# Altium integrated library Silicon Labs Modems and DAAs.IntLib: 95 symbols (part 2 of 7)
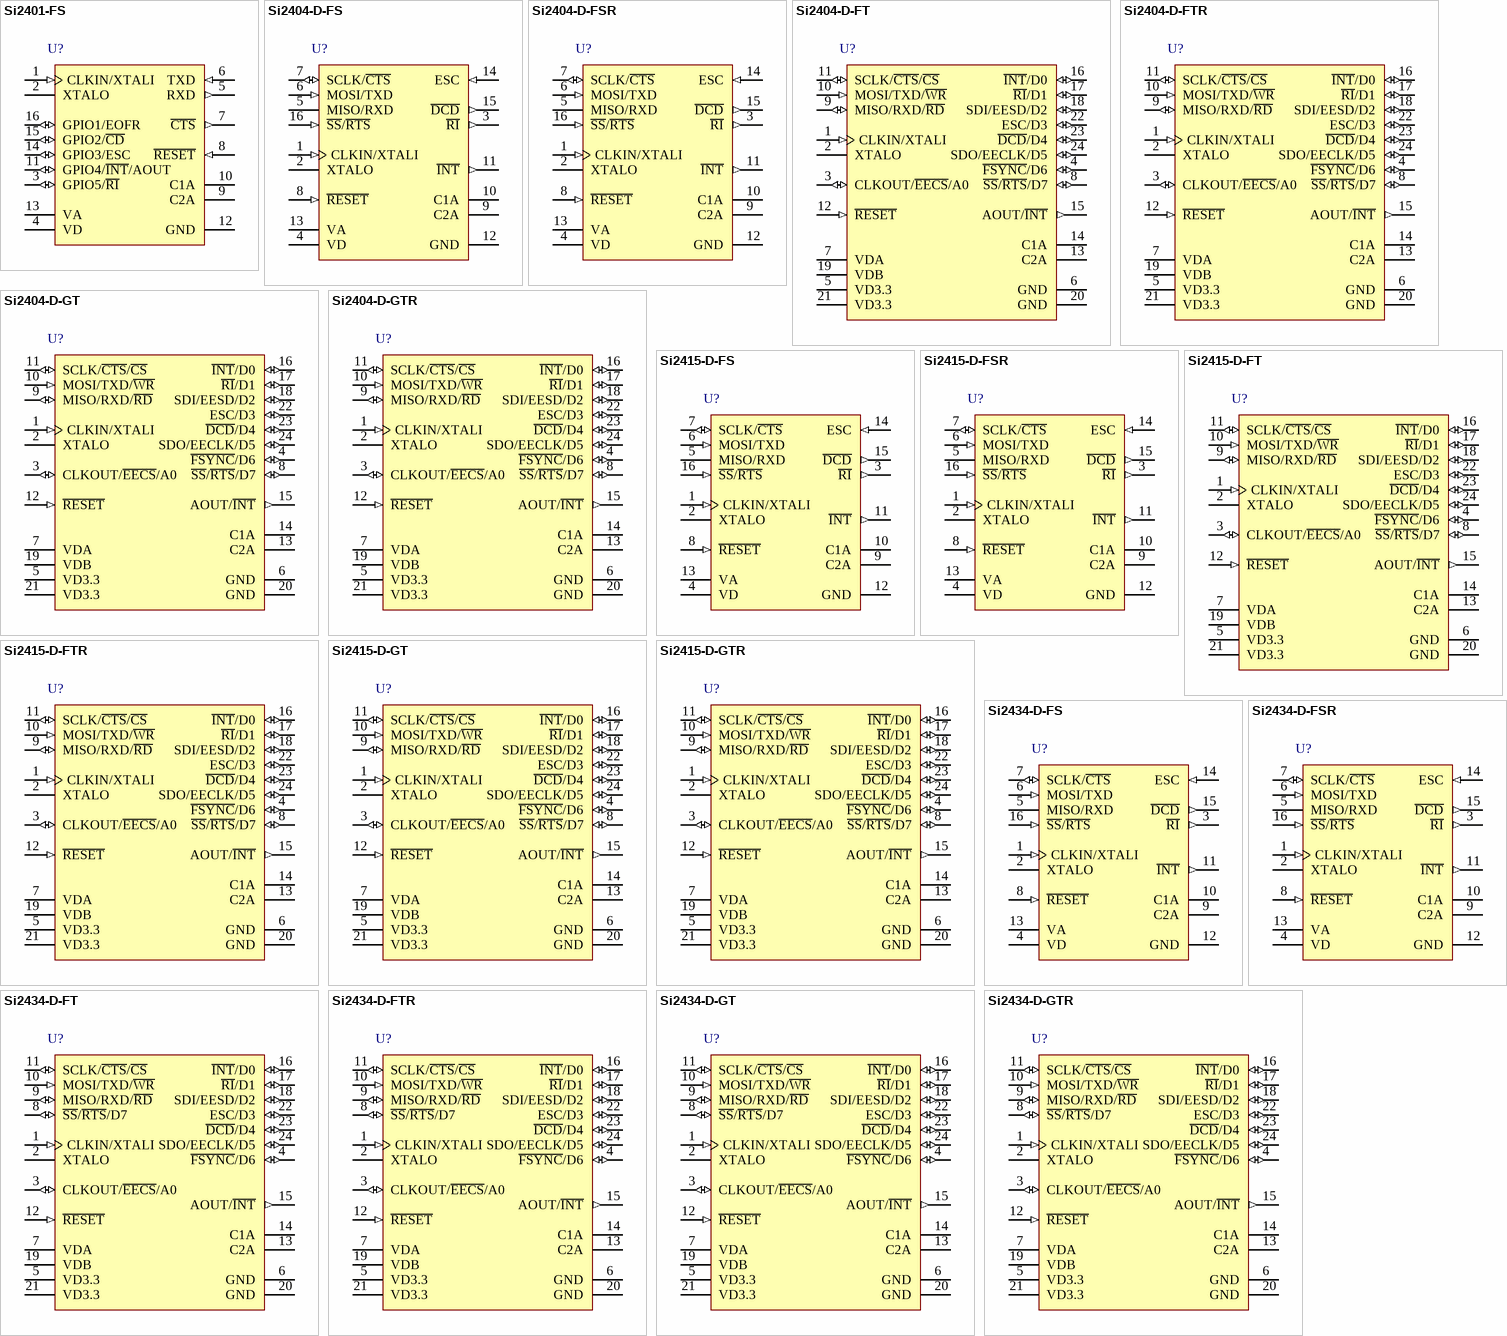
[diagram p5: symbols Si2401-FS to Si2434-D-GTR]

## Si2415-D-GTR
designator U?
ISOModem(R) with Global DAA, 14400 bps, -40 to 85 degC, 24-pin SOP, Tape and Reel; Manufacturer: Silicon Labs; PartNumber: Si2415-D-GTR; Error Correction/Data Compression: TRUE; Handset, TAM and Speakerphone: FALSE; Host Interface: Parallel; SPI; UART; Line Side Device: Si3018; Sub-Family: Embedded Modems; DatasheetVersion: Rev. 1.3; PackageReference: TSSOP-24; PackageDescription: 24-Pin Thin Shrink Small-Outline Package, Body 7.8 x 4.4 mm, Pitch 0.65 mm; Supplier 1: Digi-Key; Supplier Part Number 1: SI2415-D-GTR-ND; Supplier 2: Mouser; Supplier Part Number 2: 634-SI2415-D-GTR; Max Data Rate: 14400 bps; Packing: Tape and Reel; Mounting Technology: Surface Mount; Code_JEDEC: MO-153; Code_IPC: J-STD-020; ComponentLink1Description: Manufacturer URL; ComponentLink1URL: http://www.silabs.com/; ComponentLink2Description: Datasheet; ComponentLink2URL: http://www.silabs.com/Support%20Documents/TechnicalDocs/Si2457-34-15-04D.pdf; ComponentLink3Description: Package Specification; ComponentLink3URL: http://www.silabs.com/Support%20Documents/TechnicalDocs/Si2457-34-15-04D.pdf
footprint SLAB-TSSOP-24_N (SOP, 24-Leads, Body 7.9x4.5mm, Pitch 0.65mm, IPC Medium Density)
footprint SLAB-TSSOP-24_L (SOP, 24-Leads, Body 7.9x4.5mm, Pitch 0.65mm, IPC High Density)
footprint SLAB-TSSOP-24_M (SOP, 24-Leads, Body 7.9x4.5mm, Pitch 0.65mm, IPC Low Density)
pins: 1 CLKIN/XTALI (in) "Clock Input/Crystal Oscillator Pin. Provides support for parallel resonant AT cut crystals. A 4.9152 MHz or 32.768 kHz crystal or a 32.768 kHz or 4.9152 or 27 MHz clock on XTALI is required.", 2 XTALO "Crystal Oscillator Pin. Serves as the output of the crystal amplifier.", 3 CLKOUT/~{EECS}/A0 (io) "Clock Output/EEPROM Chip Select/Address Bit 0. Clock output in serial mode. Active low read/write enable for SPI EEPROM in serial mode when pin 4 is pulled low during powerup. Address Enable in parallel mode.", 4 ~{FSYNC}/D6 (io) "Frame Sync/Data Bit. Frame Sync output to codec in serial mode. Bidirectional parallel bus data bit 6 in parallel mode.", 5 VD3.3 (power) "Digital Supply Voltage. Provides the 3.3 V supply voltage to the Si2415.", 6 GND (power) "Ground. Connects to the system digital ground.", 7 VDA (power) "Regulator Voltage Reference. Connects to an external capacitor and serves as the reference for the internal voltage regulator.", 8 ~{SS}/~{RTS}/D7 (io) "SPI Slave Select/Request to Send/Data Bit. Active low slave select in SPI mode. Active low request to send input used for flow control in UART mode. Bidirectional parallel bus data bit 7 in parallel mode.", 9 MISO/RXD/~{RD} (io) "Master In Slave Out/Receive Data/Read Enable. Serial data output from modem in SPI mode. Data output to DTE RXD pin in UART mode. Active low read enable pin in parallel mode.", 10 MOSI/TXD/~{WR} (in) "Master Out Slave In/Transmit Data/Write Enable. Serial data input to modem in SPI mode. Data input from DTE TXD pin in serial mode. Active low write enable pin in parallel mode.", 11 SCLK/~{CTS}/~{CS} (io) "Serial Data Clock/Clear to Send/Chip Select. Serial data clock input in SPI mode. Signals that the Si2415 is ready to receive more digital data on the TXD pin in data mode. Active low chip select in parallel mode.", 12 ~{RESET} (in) "Reset Input. An active low input that is used to reset all control registers to a defined initialized state.", 13 C2A "Isolation Capacitor 2A. Connects to one side of the isolation capacitor, C2.", 14 C1A "Isolation Capacitor 1A. Connects to one side of the isolation capacitor, C1.", 15 AOUT/~{INT} (out) "Analog Output/Interrupt Output. Analog output in serial mode. Active low interrupt output in parallel mode.", 16 ~{INT}/D0 (io) "Interrupt Output/Data Bit. Active low interrupt output in serial mode. Bidirectional parallel bus data bit 0 in parallel mode.", 17 ~{RI}/D1 (io) "Ring Indicator/Data Bit. The RI on (active low) indicates the presence of an ON segment of a ring signal on the telephone line. Bidirectional parallel bus data bit 1 in parallel mode.", 18 SDI/EESD/D2 (io) "Serial Data In/EEPROM Serial Data Input/Output/Data Bit. Serial Data In (to codec) output in serial mode. Bidirectional Input/Output to SPI EEPROM in serial mode when pin 4 is pulled low during power up. Bidirectional (See Datasheet)", 19 VDB (power) "Regulator Voltage Reference. Connects to an external capacitor and serves as the reference for the internal voltage regulator.", 20 GND (power) "Ground. Connects to the system digital ground.", 21 VD3.3 (power) "Digital Supply Voltage. Provides the 3.3 V supply voltage to the Si2415.", 22 ESC/D3 (io) "Escape/Data Bit. Hardware escape in serial mode. Bidirectional parallel bus data bit 3 in parallel mode.", 23 ~{DCD}/D4 (io) "Carrier Detect/Data Bit. Active low carrier detect in serial mode. Bidirectional parallel bus data bit 4 in parallel mode.", 24 SDO/EECLK/D5 (io) "Serial Data Out/EEPROM Clock/Data Bit 5. Serial Data Out (from codec) input in serial mode. Clock output for SPI EEPROM in serial mode when pin 4 is pulled low during power up. Bidirectional parallel bus data bit 5 in (See Datasheet)"

## Si2434-D-FS
designator U?
ISOModem(R) with Global DAA, 33600 bps, 0 to 70 degC, 16-pin SOIC; Manufacturer: Silicon Labs; PartNumber: Si2434-D-FS; Error Correction/Data Compression: TRUE; Handset, TAM and Speakerphone: FALSE; Host Interface: Parallel; SPI; UART; Line Side Device: Si3018; Sub-Family: Embedded Modems; DatasheetVersion: Rev. 1.3; PackageReference: SOIC-16-NB; PackageDescription: 16-Pin Small-Outline Integrated Circuit, Body 9.9 x 3.9 mm, Pitch 1.27 mm; Supplier 1: Digi-Key; Supplier Part Number 1: SI2434-D-FS-ND; Supplier 2: Mouser; Supplier Part Number 2: 634-SI2434-D-FS; Max Data Rate: 33600 bps; Mounting Technology: Surface Mount; Code_JEDEC: MS-012; Code_IPC: J-STD-020; ComponentLink1Description: Manufacturer URL; ComponentLink1URL: http://www.silabs.com/; ComponentLink2Description: Datasheet; ComponentLink2URL: http://www.silabs.com/Support%20Documents/TechnicalDocs/Si2457-34-15-04D.pdf; ComponentLink3Description: Package Specification; ComponentLink3URL: http://www.silabs.com/Support%20Documents/TechnicalDocs/si2401.pdf
footprint SLAB-SOIC-16-NB_N (SOIC, 16-Leads, Body 9.9x3.9mm, Pitch 1.27mm, IPC Medium Density)
footprint SLAB-SOIC-16-NB_L (SOIC, 16-Leads, Body 9.9x3.9mm, Pitch 1.27mm, IPC High Density)
footprint SLAB-SOIC-16-NB_M (SOIC, 16-Leads, Body 9.9x3.9mm, Pitch 1.27mm, IPC Low Density)
pins: 1 CLKIN/XTALI (in) "XTALI-Crystal Oscillator Pin.", 2 XTALO "XTALO-Crystal Oscillator Pin.", 3 ~{RI} (out) "Ring Indicator.", 4 VD (power) "Supply Voltage.", 5 MISO/RXD (hiz) "Master In Slave Out/Receive Data.", 6 MOSI/TXD (in) "Master Out Slave In/Transmit Data.", 7 SCLK/~{CTS} (io) "Serial Data Clock/Clear to Send.", 8 ~{RESET} (in) "Reset Input.", 9 C2A "Isolation Capacitor 2A.", 10 C1A "Isolation Capacitor 1A.", 11 ~{INT} (out) "Interrupt Output.", 12 GND (power) "Ground.", 13 VA (power) "Regulator Voltage Reference.", 14 ESC (in) "Escape.", 15 ~{DCD} (out) "Carrier Detect", 16 ~{SS}/~{RTS} (in) "SPI Slave Select/Request to Send."

## Si2434-D-FSR
designator U?
ISOModem(R) with Global DAA, 33600 bps, 0 to 70 degC, 16-pin SOIC, Tape and Reel; Manufacturer: Silicon Labs; PartNumber: Si2434-D-FSR; Error Correction/Data Compression: TRUE; Handset, TAM and Speakerphone: FALSE; Host Interface: Parallel; SPI; UART; Line Side Device: Si3018; Sub-Family: Embedded Modems; DatasheetVersion: Rev. 1.3; PackageReference: SOIC-16-NB; PackageDescription: 16-Pin Small-Outline Integrated Circuit, Body 9.9 x 3.9 mm, Pitch 1.27 mm; Supplier 1: Digi-Key; Supplier Part Number 1: SI2434-D-FSR-ND; Supplier 2: Mouser; Supplier Part Number 2: 634-SI2434-D-FSR; Max Data Rate: 33600 bps; Packing: Tape and Reel; Mounting Technology: Surface Mount; Code_JEDEC: MS-012; Code_IPC: J-STD-020; ComponentLink1Description: Manufacturer URL; ComponentLink1URL: http://www.silabs.com/; ComponentLink2Description: Datasheet; ComponentLink2URL: http://www.silabs.com/Support%20Documents/TechnicalDocs/Si2457-34-15-04D.pdf; ComponentLink3Description: Package Specification; ComponentLink3URL: http://www.silabs.com/Support%20Documents/TechnicalDocs/si2401.pdf
footprint SLAB-SOIC-16-NB_N (SOIC, 16-Leads, Body 9.9x3.9mm, Pitch 1.27mm, IPC Medium Density)
footprint SLAB-SOIC-16-NB_L (SOIC, 16-Leads, Body 9.9x3.9mm, Pitch 1.27mm, IPC High Density)
footprint SLAB-SOIC-16-NB_M (SOIC, 16-Leads, Body 9.9x3.9mm, Pitch 1.27mm, IPC Low Density)
pins: 1 CLKIN/XTALI (in) "XTALI-Crystal Oscillator Pin.", 2 XTALO "XTALO-Crystal Oscillator Pin.", 3 ~{RI} (out) "Ring Indicator.", 4 VD (power) "Supply Voltage.", 5 MISO/RXD (hiz) "Master In Slave Out/Receive Data.", 6 MOSI/TXD (in) "Master Out Slave In/Transmit Data.", 7 SCLK/~{CTS} (io) "Serial Data Clock/Clear to Send.", 8 ~{RESET} (in) "Reset Input.", 9 C2A "Isolation Capacitor 2A.", 10 C1A "Isolation Capacitor 1A.", 11 ~{INT} (out) "Interrupt Output.", 12 GND (power) "Ground.", 13 VA (power) "Regulator Voltage Reference.", 14 ESC (in) "Escape.", 15 ~{DCD} (out) "Carrier Detect", 16 ~{SS}/~{RTS} (in) "SPI Slave Select/Request to Send."

## Si2434-D-FT
designator U?
ISOModem(R) with Global DAA, 33600 bps, 0 to 70 degC, 24-pin SOP; Manufacturer: Silicon Labs; PartNumber: Si2434-D-FT; Error Correction/Data Compression: TRUE; Handset, TAM and Speakerphone: FALSE; Host Interface: Parallel; SPI; UART; Line Side Device: Si3018; Sub-Family: Embedded Modems; DatasheetVersion: Rev. 1.3; PackageReference: TSSOP-24; PackageDescription: 24-Pin Thin Shrink Small-Outline Package, Body 7.8 x 4.4 mm, Pitch 0.65 mm; Supplier 1: Digi-Key; Supplier Part Number 1: SI2434-D-FT-ND; Supplier 2: Mouser; Supplier Part Number 2: 634-SI2434-D-FT; Max Data Rate: 33600 bps; Mounting Technology: Surface Mount; Code_JEDEC: MO-153; Code_IPC: J-STD-020; ComponentLink1Description: Manufacturer URL; ComponentLink1URL: http://www.silabs.com/; ComponentLink2Description: Datasheet; ComponentLink2URL: http://www.silabs.com/Support Documents/TechnicalDocs/Si2457-34-15-04D.pdf; ComponentLink3Description: Package Specification; ComponentLink3URL: http://www.silabs.com/Support%20Documents/TechnicalDocs/Si2457-34-15-04D.pdf
footprint SLAB-TSSOP-24_N (SOP, 24-Leads, Body 7.9x4.5mm, Pitch 0.65mm, IPC Medium Density)
footprint SLAB-TSSOP-24_L (SOP, 24-Leads, Body 7.9x4.5mm, Pitch 0.65mm, IPC High Density)
footprint SLAB-TSSOP-24_M (SOP, 24-Leads, Body 7.9x4.5mm, Pitch 0.65mm, IPC Low Density)
pins: 1 CLKIN/XTALI (in) "Clock Input/Crystal Oscillator Pin. Provides support for parallel resonant AT cut crystals. A 4.9152 MHz or 32.768 kHz crystal or a 32.768 kHz or 4.9152 or 27 MHz clock on XTALI is required.", 2 XTALO "Crystal Oscillator Pin. Serves as the output of the crystal amplifier.", 3 CLKOUT/~{EECS}/A0 (io) "Clock Output/EEPROM Chip Select/Address Bit 0. Clock output in serial mode. Active low read/write enable for SPI EEPROM in serial mode when pin 4 is pulled low during powerup. Address Enable in parallel mode.", 4 ~{FSYNC}/D6 (io) "Frame Sync/Data Bit. Frame Sync output to codec in serial mode. Bidirectional parallel bus data bit 6 in parallel mode.", 5 VD3.3 (power) "Digital Supply Voltage. Provides the 3.3 V supply voltage to the Si2434.", 6 GND (power) "Ground. Connects to the system digital ground.", 7 VDA (power) "Regulator Voltage Reference. Connects to an external capacitor and serves as the reference for the internal voltage regulator.", 8 ~{SS}/~{RTS}/D7 (io) "SPI Slave Select/Request to Send/Data Bit. Active low slave select in SPI mode. Active low request to send input used for flow control in UART mode. Bidirectional parallel bus data bit 7 in parallel mode.", 9 MISO/RXD/~{RD} (io) "Master In Slave Out/Receive Data/Read Enable. Serial data output from modem in SPI mode. Data output to DTE RXD pin in UART mode. Active low read enable pin in parallel mode.", 10 MOSI/TXD/~{WR} (in) "Master Out Slave In/Transmit Data/Write Enable. Serial data input to modem in SPI mode. Data input from DTE TXD pin in serial mode. Active low write enable pin in parallel mode.", 11 SCLK/~{CTS}/~{CS} (io) "Serial Data Clock/Clear to Send/Chip Select. Serial data clock input in SPI mode. Signals that the Si2434 is ready to receive more digital data on the TXD pin in data mode. Active low chip select in parallel mode.", 12 ~{RESET} (in) "Reset Input. An active low input that is used to reset all control registers to a defined initialized state.", 13 C2A "Isolation Capacitor 2A. Connects to one side of the isolation capacitor, C2.", 14 C1A "Isolation Capacitor 1A. Connects to one side of the isolation capacitor, C1.", 15 AOUT/~{INT} (out) "Analog Output/Interrupt Output. Analog output in serial mode. Active low interrupt output in parallel mode.", 16 ~{INT}/D0 (io) "Interrupt Output/Data Bit. Active low interrupt output in serial mode. Bidirectional parallel bus data bit 0 in parallel mode.", 17 ~{RI}/D1 (io) "Ring Indicator/Data Bit. The RI on (active low) indicates the presence of an ON segment of a ring signal on the telephone line. Bidirectional parallel bus data bit 1 in parallel mode.", 18 SDI/EESD/D2 (io) "Serial Data In/EEPROM Serial Data Input/Output/Data Bit. Serial Data In (to codec) output in serial mode. Bidirectional Input/Output to SPI EEPROM in serial mode when pin 4 is pulled low during power up. Bidirectional (See Datasheet)", 19 VDB (power) "Regulator Voltage Reference. Connects to an external capacitor and serves as the reference for the internal voltage regulator.", 20 GND (power) "Ground. Connects to the system digital ground.", 21 VD3.3 (power) "Digital Supply Voltage. Provides the 3.3 V supply voltage to the Si2434.", 22 ESC/D3 (io) "Escape/Data Bit. Hardware escape in serial mode. Bidirectional parallel bus data bit 3 in parallel mode.", 23 ~{DCD}/D4 (io) "Carrier Detect/Data Bit. Active low carrier detect in serial mode. Bidirectional parallel bus data bit 4 in parallel mode.", 24 SDO/EECLK/D5 (io) "Serial Data Out/EEPROM Clock/Data Bit 5. Serial Data Out (from codec) input in serial mode. Clock output for SPI EEPROM in serial mode when pin 4 is pulled low during power up. Bidirectional parallel bus data bit 5 in (See Datasheet)"

## Si2434-D-FTR
designator U?
ISOModem(R) with Global DAA, 33600 bps, 0 to 70 degC, 24-pin SOP, Tape and Reel; Manufacturer: Silicon Labs; PartNumber: Si2434-D-FTR; Error Correction/Data Compression: TRUE; Handset, TAM and Speakerphone: FALSE; Host Interface: Parallel; SPI; UART; Line Side Device: Si3018; Sub-Family: Embedded Modems; DatasheetVersion: Rev. 1.3; PackageReference: TSSOP-24; PackageDescription: 24-Pin Thin Shrink Small-Outline Package, Body 7.8 x 4.4 mm, Pitch 0.65 mm; Supplier 1: Digi-Key; Supplier Part Number 1: SI2434-D-FTR-ND; Supplier 2: Mouser; Supplier Part Number 2: 634-SI2434-D-FTR; Max Data Rate: 33600 bps; Packing: Tape and Reel; Mounting Technology: Surface Mount; Code_JEDEC: MO-153; Code_IPC: J-STD-020; ComponentLink1Description: Manufacturer URL; ComponentLink1URL: http://www.silabs.com/; ComponentLink2Description: Datasheet; ComponentLink2URL: http://www.silabs.com/Support Documents/TechnicalDocs/Si2457-34-15-04D.pdf; ComponentLink3Description: Package Specification; ComponentLink3URL: http://www.silabs.com/Support%20Documents/TechnicalDocs/Si2457-34-15-04D.pdf
footprint SLAB-TSSOP-24_N (SOP, 24-Leads, Body 7.9x4.5mm, Pitch 0.65mm, IPC Medium Density)
footprint SLAB-TSSOP-24_L (SOP, 24-Leads, Body 7.9x4.5mm, Pitch 0.65mm, IPC High Density)
footprint SLAB-TSSOP-24_M (SOP, 24-Leads, Body 7.9x4.5mm, Pitch 0.65mm, IPC Low Density)
pins: 1 CLKIN/XTALI (in) "Clock Input/Crystal Oscillator Pin. Provides support for parallel resonant AT cut crystals. A 4.9152 MHz or 32.768 kHz crystal or a 32.768 kHz or 4.9152 or 27 MHz clock on XTALI is required.", 2 XTALO "Crystal Oscillator Pin. Serves as the output of the crystal amplifier.", 3 CLKOUT/~{EECS}/A0 (io) "Clock Output/EEPROM Chip Select/Address Bit 0. Clock output in serial mode. Active low read/write enable for SPI EEPROM in serial mode when pin 4 is pulled low during powerup. Address Enable in parallel mode.", 4 ~{FSYNC}/D6 (io) "Frame Sync/Data Bit. Frame Sync output to codec in serial mode. Bidirectional parallel bus data bit 6 in parallel mode.", 5 VD3.3 (power) "Digital Supply Voltage. Provides the 3.3 V supply voltage to the Si2434.", 6 GND (power) "Ground. Connects to the system digital ground.", 7 VDA (power) "Regulator Voltage Reference. Connects to an external capacitor and serves as the reference for the internal voltage regulator.", 8 ~{SS}/~{RTS}/D7 (io) "SPI Slave Select/Request to Send/Data Bit. Active low slave select in SPI mode. Active low request to send input used for flow control in UART mode. Bidirectional parallel bus data bit 7 in parallel mode.", 9 MISO/RXD/~{RD} (io) "Master In Slave Out/Receive Data/Read Enable. Serial data output from modem in SPI mode. Data output to DTE RXD pin in UART mode. Active low read enable pin in parallel mode.", 10 MOSI/TXD/~{WR} (in) "Master Out Slave In/Transmit Data/Write Enable. Serial data input to modem in SPI mode. Data input from DTE TXD pin in serial mode. Active low write enable pin in parallel mode.", 11 SCLK/~{CTS}/~{CS} (io) "Serial Data Clock/Clear to Send/Chip Select. Serial data clock input in SPI mode. Signals that the Si2434 is ready to receive more digital data on the TXD pin in data mode. Active low chip select in parallel mode.", 12 ~{RESET} (in) "Reset Input. An active low input that is used to reset all control registers to a defined initialized state.", 13 C2A "Isolation Capacitor 2A. Connects to one side of the isolation capacitor, C2.", 14 C1A "Isolation Capacitor 1A. Connects to one side of the isolation capacitor, C1.", 15 AOUT/~{INT} (out) "Analog Output/Interrupt Output. Analog output in serial mode. Active low interrupt output in parallel mode.", 16 ~{INT}/D0 (io) "Interrupt Output/Data Bit. Active low interrupt output in serial mode. Bidirectional parallel bus data bit 0 in parallel mode.", 17 ~{RI}/D1 (io) "Ring Indicator/Data Bit. The RI on (active low) indicates the presence of an ON segment of a ring signal on the telephone line. Bidirectional parallel bus data bit 1 in parallel mode.", 18 SDI/EESD/D2 (io) "Serial Data In/EEPROM Serial Data Input/Output/Data Bit. Serial Data In (to codec) output in serial mode. Bidirectional Input/Output to SPI EEPROM in serial mode when pin 4 is pulled low during power up. Bidirectional (See Datasheet)", 19 VDB (power) "Regulator Voltage Reference. Connects to an external capacitor and serves as the reference for the internal voltage regulator.", 20 GND (power) "Ground. Connects to the system digital ground.", 21 VD3.3 (power) "Digital Supply Voltage. Provides the 3.3 V supply voltage to the Si2434.", 22 ESC/D3 (io) "Escape/Data Bit. Hardware escape in serial mode. Bidirectional parallel bus data bit 3 in parallel mode.", 23 ~{DCD}/D4 (io) "Carrier Detect/Data Bit. Active low carrier detect in serial mode. Bidirectional parallel bus data bit 4 in parallel mode.", 24 SDO/EECLK/D5 (io) "Serial Data Out/EEPROM Clock/Data Bit 5. Serial Data Out (from codec) input in serial mode. Clock output for SPI EEPROM in serial mode when pin 4 is pulled low during power up. Bidirectional parallel bus data bit 5 in (See Datasheet)"

## Si2434-D-GT
designator U?
ISOModem(R) with Global DAA, 33600 bps, -40 to 85 degC, 24-pin SOP; Manufacturer: Silicon Labs; PartNumber: Si2434-D-GT; Error Correction/Data Compression: TRUE; Handset, TAM and Speakerphone: FALSE; Host Interface: Parallel; SPI; UART; Line Side Device: Si3018; Sub-Family: Embedded Modems; DatasheetVersion: Rev. 1.3; PackageReference: TSSOP-24; PackageDescription: 24-Pin Thin Shrink Small-Outline Package, Body 7.8 x 4.4 mm, Pitch 0.65 mm; Supplier 1: Digi-Key; Supplier Part Number 1: SI2434-D-GT-ND; Supplier 2: Mouser; Supplier Part Number 2: 634-SI2434-D-GT; Max Data Rate: 33600 bps; Mounting Technology: Surface Mount; Code_JEDEC: MO-153; Code_IPC: J-STD-020; ComponentLink1Description: Manufacturer URL; ComponentLink1URL: http://www.silabs.com/; ComponentLink2Description: Datasheet; ComponentLink2URL: http://www.silabs.com/Support%20Documents/TechnicalDocs/Si2457-34-15-04D.pdf; ComponentLink3Description: Package Specification; ComponentLink3URL: http://www.silabs.com/Support%20Documents/TechnicalDocs/Si2457-34-15-04D.pdf
footprint SLAB-TSSOP-24_N (SOP, 24-Leads, Body 7.9x4.5mm, Pitch 0.65mm, IPC Medium Density)
footprint SLAB-TSSOP-24_L (SOP, 24-Leads, Body 7.9x4.5mm, Pitch 0.65mm, IPC High Density)
footprint SLAB-TSSOP-24_M (SOP, 24-Leads, Body 7.9x4.5mm, Pitch 0.65mm, IPC Low Density)
pins: 1 CLKIN/XTALI (in) "Clock Input/Crystal Oscillator Pin. Provides support for parallel resonant AT cut crystals. A 4.9152 MHz or 32.768 kHz crystal or a 32.768 kHz or 4.9152 or 27 MHz clock on XTALI is required.", 2 XTALO "Crystal Oscillator Pin. Serves as the output of the crystal amplifier.", 3 CLKOUT/~{EECS}/A0 (io) "Clock Output/EEPROM Chip Select/Address Bit 0. Clock output in serial mode. Active low read/write enable for SPI EEPROM in serial mode when pin 4 is pulled low during powerup. Address Enable in parallel mode.", 4 ~{FSYNC}/D6 (io) "Frame Sync/Data Bit. Frame Sync output to codec in serial mode. Bidirectional parallel bus data bit 6 in parallel mode.", 5 VD3.3 (power) "Digital Supply Voltage. Provides the 3.3 V supply voltage to the Si2434.", 6 GND (power) "Ground. Connects to the system digital ground.", 7 VDA (power) "Regulator Voltage Reference. Connects to an external capacitor and serves as the reference for the internal voltage regulator.", 8 ~{SS}/~{RTS}/D7 (io) "SPI Slave Select/Request to Send/Data Bit. Active low slave select in SPI mode. Active low request to send input used for flow control in UART mode. Bidirectional parallel bus data bit 7 in parallel mode.", 9 MISO/RXD/~{RD} (io) "Master In Slave Out/Receive Data/Read Enable. Serial data output from modem in SPI mode. Data output to DTE RXD pin in UART mode. Active low read enable pin in parallel mode.", 10 MOSI/TXD/~{WR} (in) "Master Out Slave In/Transmit Data/Write Enable. Serial data input to modem in SPI mode. Data input from DTE TXD pin in serial mode. Active low write enable pin in parallel mode.", 11 SCLK/~{CTS}/~{CS} (io) "Serial Data Clock/Clear to Send/Chip Select. Serial data clock input in SPI mode. Signals that the Si2434 is ready to receive more digital data on the TXD pin in data mode. Active low chip select in parallel mode.", 12 ~{RESET} (in) "Reset Input. An active low input that is used to reset all control registers to a defined initialized state.", 13 C2A "Isolation Capacitor 2A. Connects to one side of the isolation capacitor, C2.", 14 C1A "Isolation Capacitor 1A. Connects to one side of the isolation capacitor, C1.", 15 AOUT/~{INT} (out) "Analog Output/Interrupt Output. Analog output in serial mode. Active low interrupt output in parallel mode.", 16 ~{INT}/D0 (io) "Interrupt Output/Data Bit. Active low interrupt output in serial mode. Bidirectional parallel bus data bit 0 in parallel mode.", 17 ~{RI}/D1 (io) "Ring Indicator/Data Bit. The RI on (active low) indicates the presence of an ON segment of a ring signal on the telephone line. Bidirectional parallel bus data bit 1 in parallel mode.", 18 SDI/EESD/D2 (io) "Serial Data In/EEPROM Serial Data Input/Output/Data Bit. Serial Data In (to codec) output in serial mode. Bidirectional Input/Output to SPI EEPROM in serial mode when pin 4 is pulled low during power up. Bidirectional (See Datasheet)", 19 VDB (power) "Regulator Voltage Reference. Connects to an external capacitor and serves as the reference for the internal voltage regulator.", 20 GND (power) "Ground. Connects to the system digital ground.", 21 VD3.3 (power) "Digital Supply Voltage. Provides the 3.3 V supply voltage to the Si2434.", 22 ESC/D3 (io) "Escape/Data Bit. Hardware escape in serial mode. Bidirectional parallel bus data bit 3 in parallel mode.", 23 ~{DCD}/D4 (io) "Carrier Detect/Data Bit. Active low carrier detect in serial mode. Bidirectional parallel bus data bit 4 in parallel mode.", 24 SDO/EECLK/D5 (io) "Serial Data Out/EEPROM Clock/Data Bit 5. Serial Data Out (from codec) input in serial mode. Clock output for SPI EEPROM in serial mode when pin 4 is pulled low during power up. Bidirectional parallel bus data bit 5 in (See Datasheet)"

## Si2434-D-GTR
designator U?
ISOModem(R) with Global DAA, 33600 bps, -40 to 85 degC, 24-pin SOP, Tape and Reel; Manufacturer: Silicon Labs; PartNumber: Si2434-D-GTR; Error Correction/Data Compression: TRUE; Handset, TAM and Speakerphone: FALSE; Host Interface: Parallel; SPI; UART; Line Side Device: Si3018; Sub-Family: Embedded Modems; DatasheetVersion: Rev. 1.3; PackageReference: TSSOP-24; PackageDescription: 24-Pin Thin Shrink Small-Outline Package, Body 7.8 x 4.4 mm, Pitch 0.65 mm; Supplier 1: Digi-Key; Supplier Part Number 1: SI2434-D-GTR-ND; Supplier 2: Mouser; Supplier Part Number 2: 634-SI2434-D-GTR; Max Data Rate: 33600 bps; Packing: Tape and Reel; Mounting Technology: Surface Mount; Code_JEDEC: MO-153; Code_IPC: J-STD-020; ComponentLink1Description: Manufacturer URL; ComponentLink1URL: http://www.silabs.com/; ComponentLink2Description: Datasheet; ComponentLink2URL: http://www.silabs.com/Support%20Documents/TechnicalDocs/Si2457-34-15-04D.pdf; ComponentLink3Description: Package Specification; ComponentLink3URL: http://www.silabs.com/Support%20Documents/TechnicalDocs/Si2457-34-15-04D.pdf
footprint SLAB-TSSOP-24_N (SOP, 24-Leads, Body 7.9x4.5mm, Pitch 0.65mm, IPC Medium Density)
footprint SLAB-TSSOP-24_L (SOP, 24-Leads, Body 7.9x4.5mm, Pitch 0.65mm, IPC High Density)
footprint SLAB-TSSOP-24_M (SOP, 24-Leads, Body 7.9x4.5mm, Pitch 0.65mm, IPC Low Density)
pins: 1 CLKIN/XTALI (in) "Clock Input/Crystal Oscillator Pin. Provides support for parallel resonant AT cut crystals. A 4.9152 MHz or 32.768 kHz crystal or a 32.768 kHz or 4.9152 or 27 MHz clock on XTALI is required.", 2 XTALO "Crystal Oscillator Pin. Serves as the output of the crystal amplifier.", 3 CLKOUT/~{EECS}/A0 (io) "Clock Output/EEPROM Chip Select/Address Bit 0. Clock output in serial mode. Active low read/write enable for SPI EEPROM in serial mode when pin 4 is pulled low during powerup. Address Enable in parallel mode.", 4 ~{FSYNC}/D6 (io) "Frame Sync/Data Bit. Frame Sync output to codec in serial mode. Bidirectional parallel bus data bit 6 in parallel mode.", 5 VD3.3 (power) "Digital Supply Voltage. Provides the 3.3 V supply voltage to the Si2434.", 6 GND (power) "Ground. Connects to the system digital ground.", 7 VDA (power) "Regulator Voltage Reference. Connects to an external capacitor and serves as the reference for the internal voltage regulator.", 8 ~{SS}/~{RTS}/D7 (io) "SPI Slave Select/Request to Send/Data Bit. Active low slave select in SPI mode. Active low request to send input used for flow control in UART mode. Bidirectional parallel bus data bit 7 in parallel mode.", 9 MISO/RXD/~{RD} (io) "Master In Slave Out/Receive Data/Read Enable. Serial data output from modem in SPI mode. Data output to DTE RXD pin in UART mode. Active low read enable pin in parallel mode.", 10 MOSI/TXD/~{WR} (in) "Master Out Slave In/Transmit Data/Write Enable. Serial data input to modem in SPI mode. Data input from DTE TXD pin in serial mode. Active low write enable pin in parallel mode.", 11 SCLK/~{CTS}/~{CS} (io) "Serial Data Clock/Clear to Send/Chip Select. Serial data clock input in SPI mode. Signals that the Si2434 is ready to receive more digital data on the TXD pin in data mode. Active low chip select in parallel mode.", 12 ~{RESET} (in) "Reset Input. An active low input that is used to reset all control registers to a defined initialized state.", 13 C2A "Isolation Capacitor 2A. Connects to one side of the isolation capacitor, C2.", 14 C1A "Isolation Capacitor 1A. Connects to one side of the isolation capacitor, C1.", 15 AOUT/~{INT} (out) "Analog Output/Interrupt Output. Analog output in serial mode. Active low interrupt output in parallel mode.", 16 ~{INT}/D0 (io) "Interrupt Output/Data Bit. Active low interrupt output in serial mode. Bidirectional parallel bus data bit 0 in parallel mode.", 17 ~{RI}/D1 (io) "Ring Indicator/Data Bit. The RI on (active low) indicates the presence of an ON segment of a ring signal on the telephone line. Bidirectional parallel bus data bit 1 in parallel mode.", 18 SDI/EESD/D2 (io) "Serial Data In/EEPROM Serial Data Input/Output/Data Bit. Serial Data In (to codec) output in serial mode. Bidirectional Input/Output to SPI EEPROM in serial mode when pin 4 is pulled low during power up. Bidirectional (See Datasheet)", 19 VDB (power) "Regulator Voltage Reference. Connects to an external capacitor and serves as the reference for the internal voltage regulator.", 20 GND (power) "Ground. Connects to the system digital ground.", 21 VD3.3 (power) "Digital Supply Voltage. Provides the 3.3 V supply voltage to the Si2434.", 22 ESC/D3 (io) "Escape/Data Bit. Hardware escape in serial mode. Bidirectional parallel bus data bit 3 in parallel mode.", 23 ~{DCD}/D4 (io) "Carrier Detect/Data Bit. Active low carrier detect in serial mode. Bidirectional parallel bus data bit 4 in parallel mode.", 24 SDO/EECLK/D5 (io) "Serial Data Out/EEPROM Clock/Data Bit 5. Serial Data Out (from codec) input in serial mode. Clock output for SPI EEPROM in serial mode when pin 4 is pulled low during power up. Bidirectional parallel bus data bit 5 in (See Datasheet)"

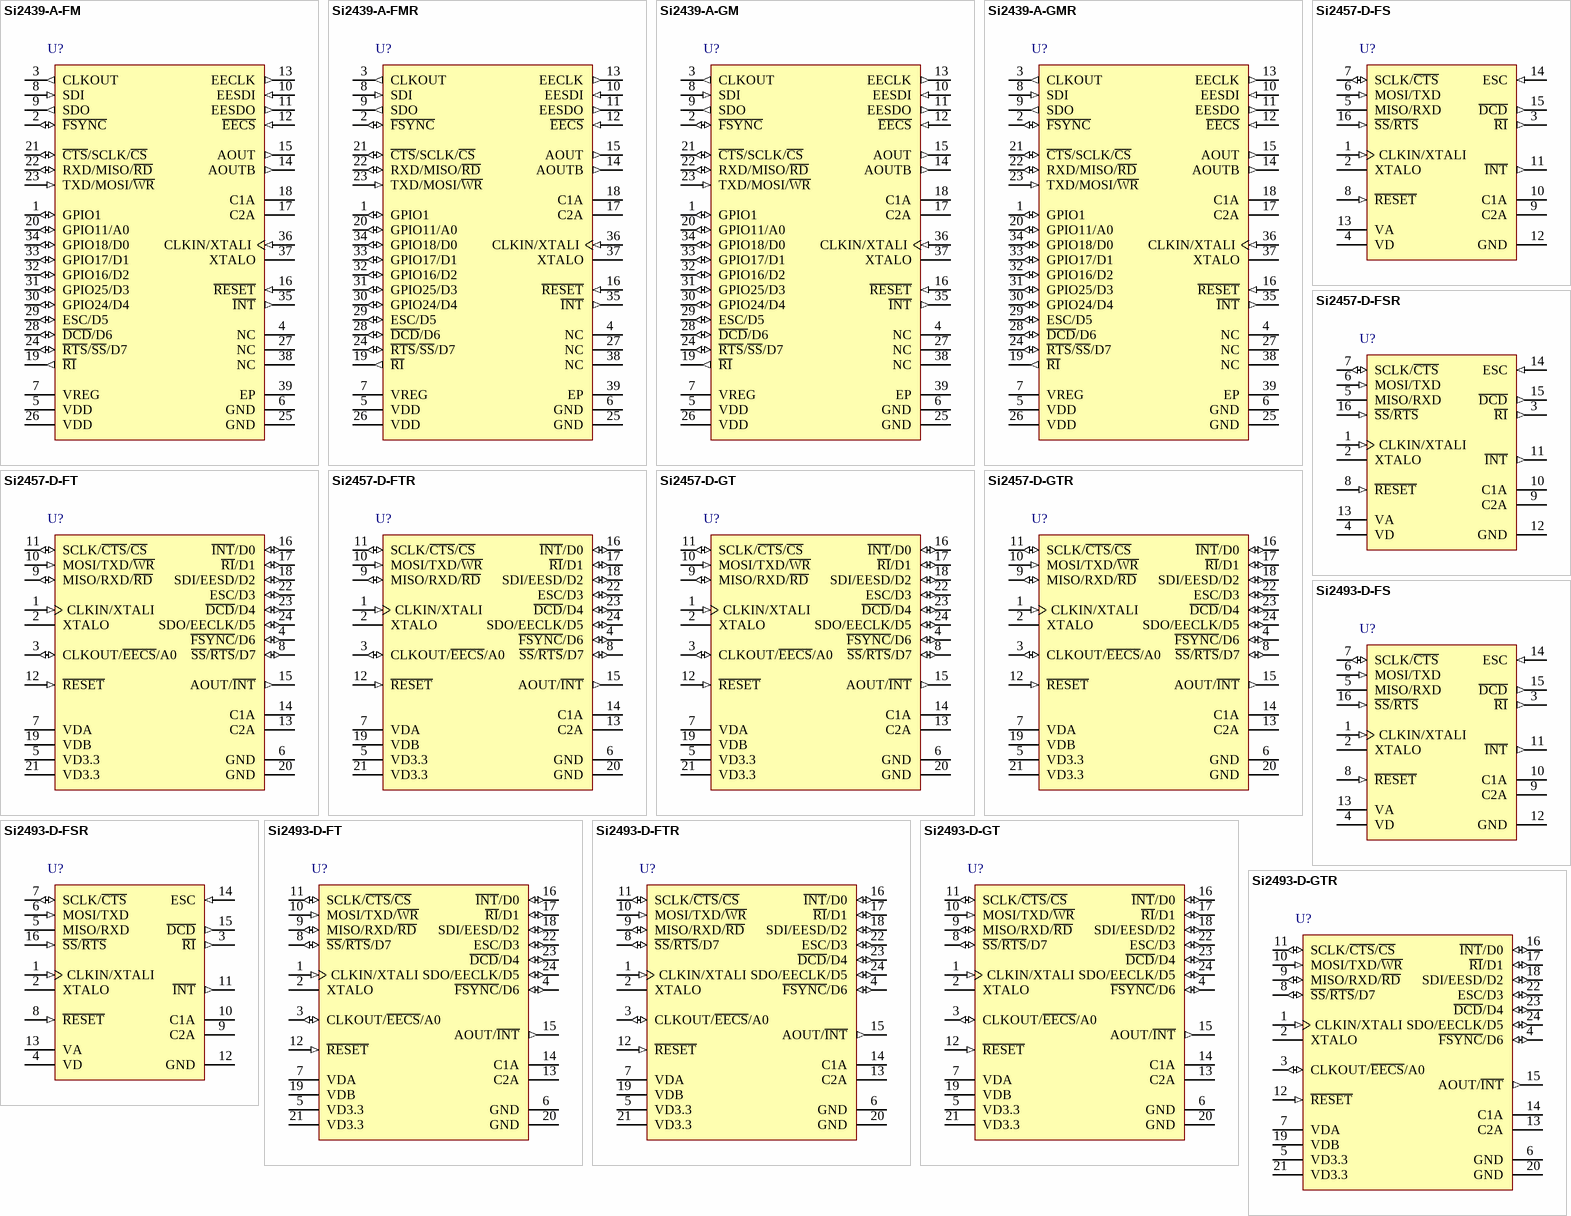
[diagram p1: symbols Si2439-A-FM to Si2493-D-GTR]

## Si2439-A-FM
designator U?
ISOModem(R) with Global DAA, 33600 bps, 0 to 70 degC, 38-pin QFN; Manufacturer: Silicon Labs; PartNumber: Si2439-A-FM; Error Correction/Data Compression: TRUE; Host Interface: Parallel; SPI; UART; Line Side Device: Si3018; Sub-Family: Embedded Modems; DatasheetVersion: Rev. 1.0; PackageReference: QFN-38; PackageDescription: 38-Pin Quad-Flat No-Leads Package, Body 5 x 7 mm, Pitch 0.5 mm; Supplier 1: Digi-Key; Supplier Part Number 1: SI2439-A-FM-ND; Supplier 2: Mouser; Supplier Part Number 2: 634-SI2439-A-FM; Handset, TAM and Speakerphone: TRUE; Max Data Rate: 33600 bps; Mounting Technology: Surface Mount; Code_IPC: J-STD-020; ComponentLink1Description: Manufacturer URL; ComponentLink1URL: http://www.silabs.com/; ComponentLink2Description: Datasheet; ComponentLink2URL: http://www.silabs.com/Support Documents/TechnicalDocs/Si2494-39.pdf; ComponentLink3Description: Package Specification; ComponentLink3URL: http://www.silabs.com/Support%20Documents/TechnicalDocs/Si2494-39.pdf
footprint SLAB-QFN-38-3200x5200TP_N (QFN, 38-Leads, Body 7x5mm, Pitch 0.5mm, Thermal Pad 3.2x5.2mm, IPC Medium Density)
footprint SLAB-QFN-38-3200x5200TP_L (QFN, 38-Leads, Body 7x5mm, Pitch 0.5mm, Thermal Pad 3.2x5.2mm, IPC High Density)
footprint SLAB-QFN-38-3200x5200TP_M (QFN, 38-Leads, Body 7x5mm, Pitch 0.5mm, Thermal Pad 3.2x5.2mm, IPC Low Density)
pins: 1 GPIO1 (io) "General Purpose Input Output #1.", 2 ~{FSYNC} (io) "Frame Sync/Data Bit.", 3 CLKOUT (out) "Clock Output.", 4 NC "No Connect.", 5 VDD (power) "Digital Supply Voltage.", 6 GND (power) "Ground.", 7 VREG (power) "Regulator Voltage Reference.", 8 SDI (in) "Serial Data In.", 9 SDO (out) "Serial Data Out.", 10 EESDI (in) "EEPROM Serial Data Input.", 11 EESDO (out) "EEPROM Serial Data Output.", 12 ~{EECS} (in) "EEPROM Chip Select.", 13 EECLK (out) "EEPROM Clock.", 14 AOUTB (out) "Audio Output B.", 15 AOUT (out) "Audio Output.", 16 ~{RESET} (in) "Reset Input.", 17 C2A "Isolation Capacitor 2A.", 18 C1A "Isolation Capacitor 1A.", 19 ~{RI} (out) "Ring Indicator.", 20 GPIO11/A0 (io), 21 ~{CTS}/SCLK/~{CS} (io), 22 RXD/MISO/~{RD} (io), 23 TXD/MOSI/~{WR} (in), 24 ~{RTS}/~{SS}/D7 (io), 25 GND (power) "Ground.", 26 VDD (power) "Digital Supply Voltage.", 27 NC "No connect.", 28 ~{DCD}/D6 (io), 29 ESC/D5 (io), 30 GPIO24/D4 (io), 31 GPIO25/D3 (io), 32 GPIO16/D2 (io), 33 GPIO17/D1 (io), 34 GPIO18/D0 (io), 35 ~{INT} (out) "Interrupt Output.", 36 CLKIN/XTALI (in), 37 XTALO "Crystal Oscillator Pin", 38 NC "No Connect.", 39 EP (power)

## Si2439-A-FMR
designator U?
ISOModem(R) with Global DAA, 33600 bps, 0 to 70 degC, 38-pin QFN, Tape and Reel; Manufacturer: Silicon Labs; PartNumber: Si2439-A-FMR; Error Correction/Data Compression: TRUE; Host Interface: Parallel; SPI; UART; Line Side Device: Si3018; Sub-Family: Embedded Modems; DatasheetVersion: Rev. 1.0; PackageReference: QFN-38; PackageDescription: 38-Pin Quad-Flat No-Leads Package, Body 5 x 7 mm, Pitch 0.5 mm; Supplier 1: Digi-Key; Supplier Part Number 1: SI2439-A-FMR-ND; Supplier 2: Mouser; Supplier Part Number 2: 634-SI2439-A-FMR; Handset, TAM and Speakerphone: TRUE; Max Data Rate: 33600 bps; Packing: Tape and Reel; Mounting Technology: Surface Mount; Code_IPC: J-STD-020; ComponentLink1Description: Manufacturer URL; ComponentLink1URL: http://www.silabs.com/; ComponentLink2Description: Datasheet; ComponentLink2URL: http://www.silabs.com/Support Documents/TechnicalDocs/Si2494-39.pdf; ComponentLink3Description: Package Specification; ComponentLink3URL: http://www.silabs.com/Support%20Documents/TechnicalDocs/Si2494-39.pdf
footprint SLAB-QFN-38-3200x5200TP_N (QFN, 38-Leads, Body 7x5mm, Pitch 0.5mm, Thermal Pad 3.2x5.2mm, IPC Medium Density)
footprint SLAB-QFN-38-3200x5200TP_L (QFN, 38-Leads, Body 7x5mm, Pitch 0.5mm, Thermal Pad 3.2x5.2mm, IPC High Density)
footprint SLAB-QFN-38-3200x5200TP_M (QFN, 38-Leads, Body 7x5mm, Pitch 0.5mm, Thermal Pad 3.2x5.2mm, IPC Low Density)
pins: 1 GPIO1 (io) "General Purpose Input Output #1.", 2 ~{FSYNC} (io) "Frame Sync/Data Bit.", 3 CLKOUT (out) "Clock Output.", 4 NC "No Connect.", 5 VDD (power) "Digital Supply Voltage.", 6 GND (power) "Ground.", 7 VREG (power) "Regulator Voltage Reference.", 8 SDI (in) "Serial Data In.", 9 SDO (out) "Serial Data Out.", 10 EESDI (in) "EEPROM Serial Data Input.", 11 EESDO (out) "EEPROM Serial Data Output.", 12 ~{EECS} (in) "EEPROM Chip Select.", 13 EECLK (out) "EEPROM Clock.", 14 AOUTB (out) "Audio Output B.", 15 AOUT (out) "Audio Output.", 16 ~{RESET} (in) "Reset Input.", 17 C2A "Isolation Capacitor 2A.", 18 C1A "Isolation Capacitor 1A.", 19 ~{RI} (out) "Ring Indicator.", 20 GPIO11/A0 (io), 21 ~{CTS}/SCLK/~{CS} (io), 22 RXD/MISO/~{RD} (io), 23 TXD/MOSI/~{WR} (in), 24 ~{RTS}/~{SS}/D7 (io), 25 GND (power) "Ground.", 26 VDD (power) "Digital Supply Voltage.", 27 NC "No connect.", 28 ~{DCD}/D6 (io), 29 ESC/D5 (io), 30 GPIO24/D4 (io), 31 GPIO25/D3 (io), 32 GPIO16/D2 (io), 33 GPIO17/D1 (io), 34 GPIO18/D0 (io), 35 ~{INT} (out) "Interrupt Output.", 36 CLKIN/XTALI (in), 37 XTALO "Crystal Oscillator Pin", 38 NC "No Connect.", 39 EP (power)

## Si2439-A-GM
designator U?
ISOModem(R) with Global DAA, 33600 bps, -40 to 85 degC, 38-pin QFN; Manufacturer: Silicon Labs; PartNumber: Si2439-A-GM; Error Correction/Data Compression: TRUE; Host Interface: Parallel; SPI; UART; Line Side Device: Si3018; Sub-Family: Embedded Modems; DatasheetVersion: Rev. 1.0; PackageReference: QFN-38; PackageDescription: 38-Pin Quad-Flat No-Leads Package, Body 5 x 7 mm, Pitch 0.5 mm; Supplier 1: Digi-Key; Supplier Part Number 1: SI2439-A-GM-ND; Supplier 2: Mouser; Supplier Part Number 2: 634-SI2439-A-GM; Handset, TAM and Speakerphone: TRUE; Max Data Rate: 33600 bps; Mounting Technology: Surface Mount; Code_IPC: J-STD-020; ComponentLink1Description: Manufacturer URL; ComponentLink1URL: http://www.silabs.com/; ComponentLink2Description: Datasheet; ComponentLink2URL: http://www.silabs.com/Support%20Documents/TechnicalDocs/Si2494-39.pdf; ComponentLink3Description: Package Specification; ComponentLink3URL: http://www.silabs.com/Support%20Documents/TechnicalDocs/Si2494-39.pdf
footprint SLAB-QFN-38-3200x5200TP_N (QFN, 38-Leads, Body 7x5mm, Pitch 0.5mm, Thermal Pad 3.2x5.2mm, IPC Medium Density)
footprint SLAB-QFN-38-3200x5200TP_L (QFN, 38-Leads, Body 7x5mm, Pitch 0.5mm, Thermal Pad 3.2x5.2mm, IPC High Density)
footprint SLAB-QFN-38-3200x5200TP_M (QFN, 38-Leads, Body 7x5mm, Pitch 0.5mm, Thermal Pad 3.2x5.2mm, IPC Low Density)
pins: 1 GPIO1 (io) "General Purpose Input Output #1.", 2 ~{FSYNC} (io) "Frame Sync/Data Bit.", 3 CLKOUT (out) "Clock Output.", 4 NC "No Connect.", 5 VDD (power) "Digital Supply Voltage.", 6 GND (power) "Ground.", 7 VREG (power) "Regulator Voltage Reference.", 8 SDI (in) "Serial Data In.", 9 SDO (out) "Serial Data Out.", 10 EESDI (in) "EEPROM Serial Data Input.", 11 EESDO (out) "EEPROM Serial Data Output.", 12 ~{EECS} (in) "EEPROM Chip Select.", 13 EECLK (out) "EEPROM Clock.", 14 AOUTB (out) "Audio Output B.", 15 AOUT (out) "Audio Output.", 16 ~{RESET} (in) "Reset Input.", 17 C2A "Isolation Capacitor 2A.", 18 C1A "Isolation Capacitor 1A.", 19 ~{RI} (out) "Ring Indicator.", 20 GPIO11/A0 (io), 21 ~{CTS}/SCLK/~{CS} (io), 22 RXD/MISO/~{RD} (io), 23 TXD/MOSI/~{WR} (in), 24 ~{RTS}/~{SS}/D7 (io), 25 GND (power) "Ground.", 26 VDD (power) "Digital Supply Voltage.", 27 NC "No connect.", 28 ~{DCD}/D6 (io), 29 ESC/D5 (io), 30 GPIO24/D4 (io), 31 GPIO25/D3 (io), 32 GPIO16/D2 (io), 33 GPIO17/D1 (io), 34 GPIO18/D0 (io), 35 ~{INT} (out) "Interrupt Output.", 36 CLKIN/XTALI (in), 37 XTALO "Crystal Oscillator Pin", 38 NC "No Connect.", 39 EP (power)

## Si2439-A-GMR
designator U?
ISOModem(R) with Global DAA, 33600 bps, -40 to 85 degC, 38-pin QFN, Tape and Reel; Manufacturer: Silicon Labs; PartNumber: Si2439-A-GMR; Error Correction/Data Compression: TRUE; Host Interface: Parallel; SPI; UART; Line Side Device: Si3018; Sub-Family: Embedded Modems; DatasheetVersion: Rev. 1.0; PackageReference: QFN-38; PackageDescription: 38-Pin Quad-Flat No-Leads Package, Body 5 x 7 mm, Pitch 0.5 mm; Supplier 1: Digi-Key; Supplier Part Number 1: SI2439-A-GMR-ND; Supplier 2: Mouser; Supplier Part Number 2: 634-SI2439-A-GMR; Handset, TAM and Speakerphone: TRUE; Max Data Rate: 33600 bps; Packing: Tape and Reel; Mounting Technology: Surface Mount; Code_IPC: J-STD-020; ComponentLink1Description: Manufacturer URL; ComponentLink1URL: http://www.silabs.com/; ComponentLink2Description: Datasheet; ComponentLink2URL: http://www.silabs.com/Support%20Documents/TechnicalDocs/Si2494-39.pdf; ComponentLink3Description: Package Specification; ComponentLink3URL: http://www.silabs.com/Support%20Documents/TechnicalDocs/Si2494-39.pdf
footprint SLAB-QFN-38-3200x5200TP_N (QFN, 38-Leads, Body 7x5mm, Pitch 0.5mm, Thermal Pad 3.2x5.2mm, IPC Medium Density)
footprint SLAB-QFN-38-3200x5200TP_L (QFN, 38-Leads, Body 7x5mm, Pitch 0.5mm, Thermal Pad 3.2x5.2mm, IPC High Density)
footprint SLAB-QFN-38-3200x5200TP_M (QFN, 38-Leads, Body 7x5mm, Pitch 0.5mm, Thermal Pad 3.2x5.2mm, IPC Low Density)
pins: 1 GPIO1 (io) "General Purpose Input Output #1.", 2 ~{FSYNC} (io) "Frame Sync/Data Bit.", 3 CLKOUT (out) "Clock Output.", 4 NC "No Connect.", 5 VDD (power) "Digital Supply Voltage.", 6 GND (power) "Ground.", 7 VREG (power) "Regulator Voltage Reference.", 8 SDI (in) "Serial Data In.", 9 SDO (out) "Serial Data Out.", 10 EESDI (in) "EEPROM Serial Data Input.", 11 EESDO (out) "EEPROM Serial Data Output.", 12 ~{EECS} (in) "EEPROM Chip Select.", 13 EECLK (out) "EEPROM Clock.", 14 AOUTB (out) "Audio Output B.", 15 AOUT (out) "Audio Output.", 16 ~{RESET} (in) "Reset Input.", 17 C2A "Isolation Capacitor 2A.", 18 C1A "Isolation Capacitor 1A.", 19 ~{RI} (out) "Ring Indicator.", 20 GPIO11/A0 (io), 21 ~{CTS}/SCLK/~{CS} (io), 22 RXD/MISO/~{RD} (io), 23 TXD/MOSI/~{WR} (in), 24 ~{RTS}/~{SS}/D7 (io), 25 GND (power) "Ground.", 26 VDD (power) "Digital Supply Voltage.", 27 NC "No connect.", 28 ~{DCD}/D6 (io), 29 ESC/D5 (io), 30 GPIO24/D4 (io), 31 GPIO25/D3 (io), 32 GPIO16/D2 (io), 33 GPIO17/D1 (io), 34 GPIO18/D0 (io), 35 ~{INT} (out) "Interrupt Output.", 36 CLKIN/XTALI (in), 37 XTALO "Crystal Oscillator Pin", 38 NC "No Connect.", 39 EP (power)

## Si2457-D-FS
designator U?
ISOModem(R) with Global DAA, 56000 bps, 0 to 70 degC, 16-pin SOIC; Manufacturer: Silicon Labs; PartNumber: Si2457-D-FS; Error Correction/Data Compression: TRUE; Handset, TAM and Speakerphone: FALSE; Host Interface: Parallel; SPI; UART; Line Side Device: Si3018; Sub-Family: Embedded Modems; DatasheetVersion: Rev. 1.3; PackageReference: SOIC-16-NB; PackageDescription: 16-Pin Small-Outline Integrated Circuit, Body 9.9 x 3.9 mm, Pitch 1.27 mm; Supplier 1: Digi-Key; Supplier Part Number 1: SI2457-D-FS-ND; Supplier 2: Mouser; Supplier Part Number 2: 634-SI2457-D-FS; Max Data Rate: 56000 bps; Mounting Technology: Surface Mount; Code_JEDEC: MS-012; Code_IPC: J-STD-020; ComponentLink1Description: Manufacturer URL; ComponentLink1URL: http://www.silabs.com/; ComponentLink2Description: Datasheet; ComponentLink2URL: http://www.silabs.com/Support%20Documents/TechnicalDocs/Si2457-34-15-04D.pdf; ComponentLink3Description: Package Specification; ComponentLink3URL: http://www.silabs.com/Support%20Documents/TechnicalDocs/si2401.pdf
footprint SLAB-SOIC-16-NB_N (SOIC, 16-Leads, Body 9.9x3.9mm, Pitch 1.27mm, IPC Medium Density)
footprint SLAB-SOIC-16-NB_L (SOIC, 16-Leads, Body 9.9x3.9mm, Pitch 1.27mm, IPC High Density)
footprint SLAB-SOIC-16-NB_M (SOIC, 16-Leads, Body 9.9x3.9mm, Pitch 1.27mm, IPC Low Density)
pins: 1 CLKIN/XTALI (in) "XTALI-Crystal Oscillator Pin.", 2 XTALO "XTALO-Crystal Oscillator Pin.", 3 ~{RI} (out) "Ring Indicator.", 4 VD (power) "Supply Voltage.", 5 MISO/RXD (hiz) "Master In Slave Out/Receive Data.", 6 MOSI/TXD (in) "Master Out Slave In/Transmit Data.", 7 SCLK/~{CTS} (io) "Serial Data Clock/Clear to Send.", 8 ~{RESET} (in) "Reset Input.", 9 C2A "Isolation Capacitor 2A.", 10 C1A "Isolation Capacitor 1A.", 11 ~{INT} (out) "Interrupt Output.", 12 GND (power) "Ground.", 13 VA (power) "Regulator Voltage Reference.", 14 ESC (in) "Escape.", 15 ~{DCD} (out) "Carrier Detect", 16 ~{SS}/~{RTS} (in) "SPI Slave Select/Request to Send."

## Si2457-D-FSR
designator U?
ISOModem(R) with Global DAA, 56000 bps, 0 to 70 degC, 16-pin SOIC, Tape and Reel; Manufacturer: Silicon Labs; PartNumber: Si2457-D-FSR; Error Correction/Data Compression: TRUE; Handset, TAM and Speakerphone: FALSE; Host Interface: Parallel; SPI; UART; Line Side Device: Si3018; Sub-Family: Embedded Modems; DatasheetVersion: Rev. 1.3; PackageReference: SOIC-16-NB; PackageDescription: 16-Pin Small-Outline Integrated Circuit, Body 9.9 x 3.9 mm, Pitch 1.27 mm; Supplier 1: Digi-Key; Supplier Part Number 1: SI2457-D-FSR-ND; Supplier 2: Mouser; Supplier Part Number 2: 634-SI2457-D-FSR; Max Data Rate: 56000 bps; Packing: Tape and Reel; Mounting Technology: Surface Mount; Code_JEDEC: MS-012; Code_IPC: J-STD-020; ComponentLink1Description: Manufacturer URL; ComponentLink1URL: http://www.silabs.com/; ComponentLink2Description: Datasheet; ComponentLink2URL: http://www.silabs.com/Support%20Documents/TechnicalDocs/Si2457-34-15-04D.pdf; ComponentLink3Description: Package Specification; ComponentLink3URL: http://www.silabs.com/Support%20Documents/TechnicalDocs/si2401.pdf
footprint SLAB-SOIC-16-NB_N (SOIC, 16-Leads, Body 9.9x3.9mm, Pitch 1.27mm, IPC Medium Density)
footprint SLAB-SOIC-16-NB_L (SOIC, 16-Leads, Body 9.9x3.9mm, Pitch 1.27mm, IPC High Density)
footprint SLAB-SOIC-16-NB_M (SOIC, 16-Leads, Body 9.9x3.9mm, Pitch 1.27mm, IPC Low Density)
pins: 1 CLKIN/XTALI (in) "XTALI-Crystal Oscillator Pin.", 2 XTALO "XTALO-Crystal Oscillator Pin.", 3 ~{RI} (out) "Ring Indicator.", 4 VD (power) "Supply Voltage.", 5 MISO/RXD (hiz) "Master In Slave Out/Receive Data.", 6 MOSI/TXD (in) "Master Out Slave In/Transmit Data.", 7 SCLK/~{CTS} (io) "Serial Data Clock/Clear to Send.", 8 ~{RESET} (in) "Reset Input.", 9 C2A "Isolation Capacitor 2A.", 10 C1A "Isolation Capacitor 1A.", 11 ~{INT} (out) "Interrupt Output.", 12 GND (power) "Ground.", 13 VA (power) "Regulator Voltage Reference.", 14 ESC (in) "Escape.", 15 ~{DCD} (out) "Carrier Detect", 16 ~{SS}/~{RTS} (in) "SPI Slave Select/Request to Send."

## Si2457-D-FT
designator U?
ISOModem(R) with Global DAA, 56000 bps, 0 to 70 degC, 24-pin SOP; Manufacturer: Silicon Labs; PartNumber: Si2457-D-FT; Error Correction/Data Compression: TRUE; Handset, TAM and Speakerphone: FALSE; Host Interface: Parallel; SPI; UART; Line Side Device: Si3018; Sub-Family: Embedded Modems; DatasheetVersion: Rev. 1.3; PackageReference: TSSOP-24; PackageDescription: 24-Pin Thin Shrink Small-Outline Package, Body 7.8 x 4.4 mm, Pitch 0.65 mm; Supplier 1: Digi-Key; Supplier Part Number 1: SI2457-D-FT-ND; Supplier 2: Mouser; Supplier Part Number 2: 634-SI2457-D-FT; Max Data Rate: 56000 bps; Mounting Technology: Surface Mount; Code_JEDEC: MO-153; Code_IPC: J-STD-020; ComponentLink1Description: Manufacturer URL; ComponentLink1URL: http://www.silabs.com/; ComponentLink2Description: Datasheet; ComponentLink2URL: http://www.silabs.com/Support Documents/TechnicalDocs/Si2457-34-15-04D.pdf; ComponentLink3Description: Package Specification; ComponentLink3URL: http://www.silabs.com/Support%20Documents/TechnicalDocs/Si2457-34-15-04D.pdf
footprint SLAB-TSSOP-24_N (SOP, 24-Leads, Body 7.9x4.5mm, Pitch 0.65mm, IPC Medium Density)
footprint SLAB-TSSOP-24_L (SOP, 24-Leads, Body 7.9x4.5mm, Pitch 0.65mm, IPC High Density)
footprint SLAB-TSSOP-24_M (SOP, 24-Leads, Body 7.9x4.5mm, Pitch 0.65mm, IPC Low Density)
pins: 1 CLKIN/XTALI (in) "Clock Input/Crystal Oscillator Pin. Provides support for parallel resonant AT cut crystals. A 4.9152 MHz or 32.768 kHz crystal or a 32.768 kHz or 4.9152 or 27 MHz clock on XTALI is required.", 2 XTALO "Crystal Oscillator Pin. Serves as the output of the crystal amplifier.", 3 CLKOUT/~{EECS}/A0 (io) "Clock Output/EEPROM Chip Select/Address Bit 0. Clock output in serial mode. Active low read/write enable for SPI EEPROM in serial mode when pin 4 is pulled low during powerup. Address Enable in parallel mode.", 4 ~{FSYNC}/D6 (io) "Frame Sync/Data Bit. Frame Sync output to codec in serial mode. Bidirectional parallel bus data bit 6 in parallel mode.", 5 VD3.3 (power) "Digital Supply Voltage. Provides the 3.3 V supply voltage to the Si2457.", 6 GND (power) "Ground. Connects to the system digital ground.", 7 VDA (power) "Regulator Voltage Reference. Connects to an external capacitor and serves as the reference for the internal voltage regulator.", 8 ~{SS}/~{RTS}/D7 (io) "SPI Slave Select/Request to Send/Data Bit. Active low slave select in SPI mode. Active low request to send input used for flow control in UART mode. Bidirectional parallel bus data bit 7 in parallel mode.", 9 MISO/RXD/~{RD} (io) "Master In Slave Out/Receive Data/Read Enable. Serial data output from modem in SPI mode. Data output to DTE RXD pin in UART mode. Active low read enable pin in parallel mode.", 10 MOSI/TXD/~{WR} (in) "Master Out Slave In/Transmit Data/Write Enable. Serial data input to modem in SPI mode. Data input from DTE TXD pin in serial mode. Active low write enable pin in parallel mode.", 11 SCLK/~{CTS}/~{CS} (io) "Serial Data Clock/Clear to Send/Chip Select. Serial data clock input in SPI mode. Signals that the Si2457 is ready to receive more digital data on the TXD pin in data mode. Active low chip select in parallel mode.", 12 ~{RESET} (in) "Reset Input. An active low input that is used to reset all control registers to a defined initialized state.", 13 C2A "Isolation Capacitor 2A. Connects to one side of the isolation capacitor, C2.", 14 C1A "Isolation Capacitor 1A. Connects to one side of the isolation capacitor, C1.", 15 AOUT/~{INT} (out) "Analog Output/Interrupt Output. Analog output in serial mode. Active low interrupt output in parallel mode.", 16 ~{INT}/D0 (io) "Interrupt Output/Data Bit. Active low interrupt output in serial mode. Bidirectional parallel bus data bit 0 in parallel mode.", 17 ~{RI}/D1 (io) "Ring Indicator/Data Bit. The RI on (active low) indicates the presence of an ON segment of a ring signal on the telephone line. Bidirectional parallel bus data bit 1 in parallel mode.", 18 SDI/EESD/D2 (io) "Serial Data In/EEPROM Serial Data Input/Output/Data Bit. Serial Data In (to codec) output in serial mode. Bidirectional Input/Output to SPI EEPROM in serial mode when pin 4 is pulled low during power up. Bidirectional (See Datasheet)", 19 VDB (power) "Regulator Voltage Reference. Connects to an external capacitor and serves as the reference for the internal voltage regulator.", 20 GND (power) "Ground. Connects to the system digital ground.", 21 VD3.3 (power) "Digital Supply Voltage. Provides the 3.3 V supply voltage to the Si2457.", 22 ESC/D3 (io) "Escape/Data Bit. Hardware escape in serial mode. Bidirectional parallel bus data bit 3 in parallel mode.", 23 ~{DCD}/D4 (io) "Carrier Detect/Data Bit. Active low carrier detect in serial mode. Bidirectional parallel bus data bit 4 in parallel mode.", 24 SDO/EECLK/D5 (io) "Serial Data Out/EEPROM Clock/Data Bit 5. Serial Data Out (from codec) input in serial mode. Clock output for SPI EEPROM in serial mode when pin 4 is pulled low during power up. Bidirectional parallel bus data bit 5 in (See Datasheet)"